# Altium footprint library 底板20160428.PcbLib: 19 footprints (part 2 of 2)
Each footprint in its own frame and in the unit in brackets; x right, y up, seen from the top. Pads: shape width x height; smd on the part's side, far side on the other; paste and mask are expansions set on the pad; w line width, h text height; cw(c..) or ccw(c..) is an arc to the next point about the centre after c.
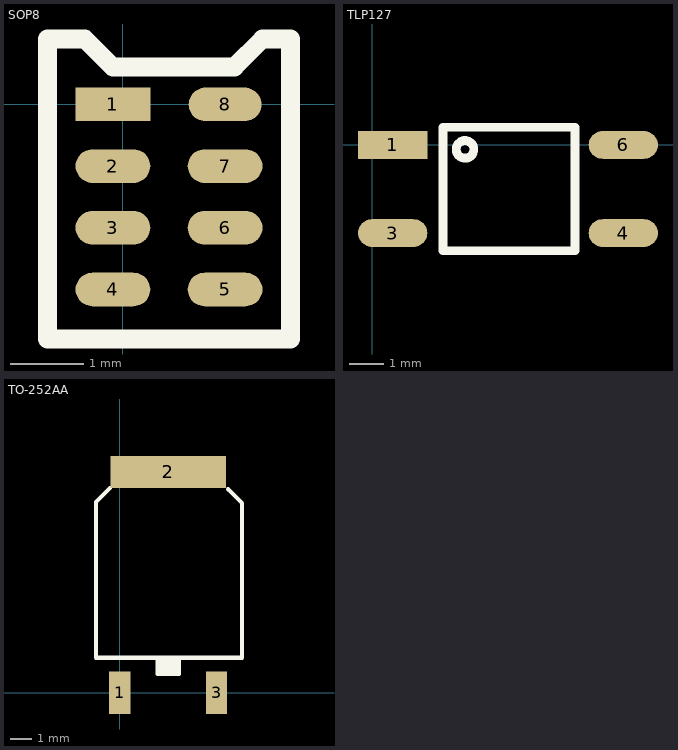
[diagram p1: the footprints below, top view; thin cyan lines are the x and y axes]

## SOP8 [mil]
pads (8):
  rect 40x18 smd: 1(-5.35,-0.18)
  oval 40x18 smd: 2(-5.35,-33.18) 3(-5.35,-66.18) 4(-5.35,-99.18) 5(54.65,-99.18) 6(54.65,-66.18) 7(54.65,-33.18)
  oval 39x18 smd: 8(54.65,-0.18)
Top Overlay:
  lines w10: 89.65,14.82 89.65,34.82 74.65,34.82 59.65,19.82 -5.35,19.82 -20.35,34.82 -40.35,34.82 -40.35,26.32 -40.35,-125.68 89.65,-125.68 89.65,26.32

## TLP127 [mm]
height 1.75
pads (4):
  rect 2x0.8 smd: 1(0.589,-0.001)
  oval 2x0.8 smd: 3(0.589,-2.541) 4(7.239,-2.541) 6(7.239,-0.001)
Top Overlay:
  circle w0.254: c2.675,-0.128 r0.254
  lines w0.254: 2.04,-3.049 4.834,-3.049 5.85,-3.049 5.85,0.507 4.834,0.507 2.04,0.507 2.04,-3.049

## TO-252AA [mm]
pads (3):
  rect 1x2 smd: 1(0,0) 3(4.57,0)
  rect 5.46x1.5 smd: 2(2.286,10.414)
Top Overlay:
  rectangle: 1.778,0.889 2.794,1.651
  lines w0.2: -0.457,9.652 -1.118,8.992 -1.118,1.651 5.766,1.651 5.766,8.941 5.105,9.601 ; 1.778,1.651 1.778,0.889 2.794,0.889 2.794,1.651